# EAGLE library part TMUX1104DGSR (library SamacSys_Parts)
5-V low-leakage-current, 4:1, 1-ch precision analog multiplexer Source: Datasheet <http://www.ti.com/lit/ds/symlink/tmux1104.pdf>
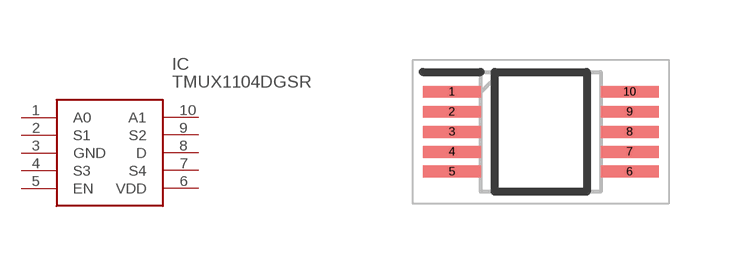
[diagram p2: symbol with the pads of SOP50P490X110-10N; footprint SOP50P490X110-10N]

Designator prefix IC

## TMUX1104DGSR (DESCRIPTION: 5-V low-leakage-current, 4:1, 1-ch precision analog multiplexer; HEIGHT: 1.1mm; MANUFACTURER_NAME: Texas Instruments; MANUFACTURER_PART_NUMBER: TMUX1104DGSR; MOUSER_PART_NUMBER: 595-TMUX1104DGSR; MOUSER_PRICE-STOCK: https://www.mouser.co.uk/ProductDetail/Texas-Instruments/TMUX1104DGSR?qs=PqoDHHvF64%2FGMPQ%252BUVRygg%3D%3D)  [SOP50P490X110-10N]
1  A0
2  S1
3  GND
4  S3
5  EN
6  VDD
7  S4
8  D
9  S2
10  A1

## Footprint SOP50P490X110-10N (pad centres in mm)
10-Lead Mini Small Outline Package [MSOP] (RM-10)
smd 1.45 x 0.3: 1 -2.225,1; 2 -2.225,0.5; 3 -2.225,0; 4 -2.225,-0.5; 5 -2.225,-1; 6 2.225,-1; 7 2.225,-0.5; 8 2.225,0; 9 2.225,0.5; 10 2.225,1